# Altium footprint library moteus_n1.PCBLIB: 34 footprints (part 1 of 3)
Each footprint in its own frame and in the unit in brackets; x right, y up, seen from the top. Pads: shape width x height; smd on the part's side, far side on the other; paste and mask are expansions set on the pad; w line width, h text height; cw(c..) or ccw(c..) is an arc to the next point about the centre after c.
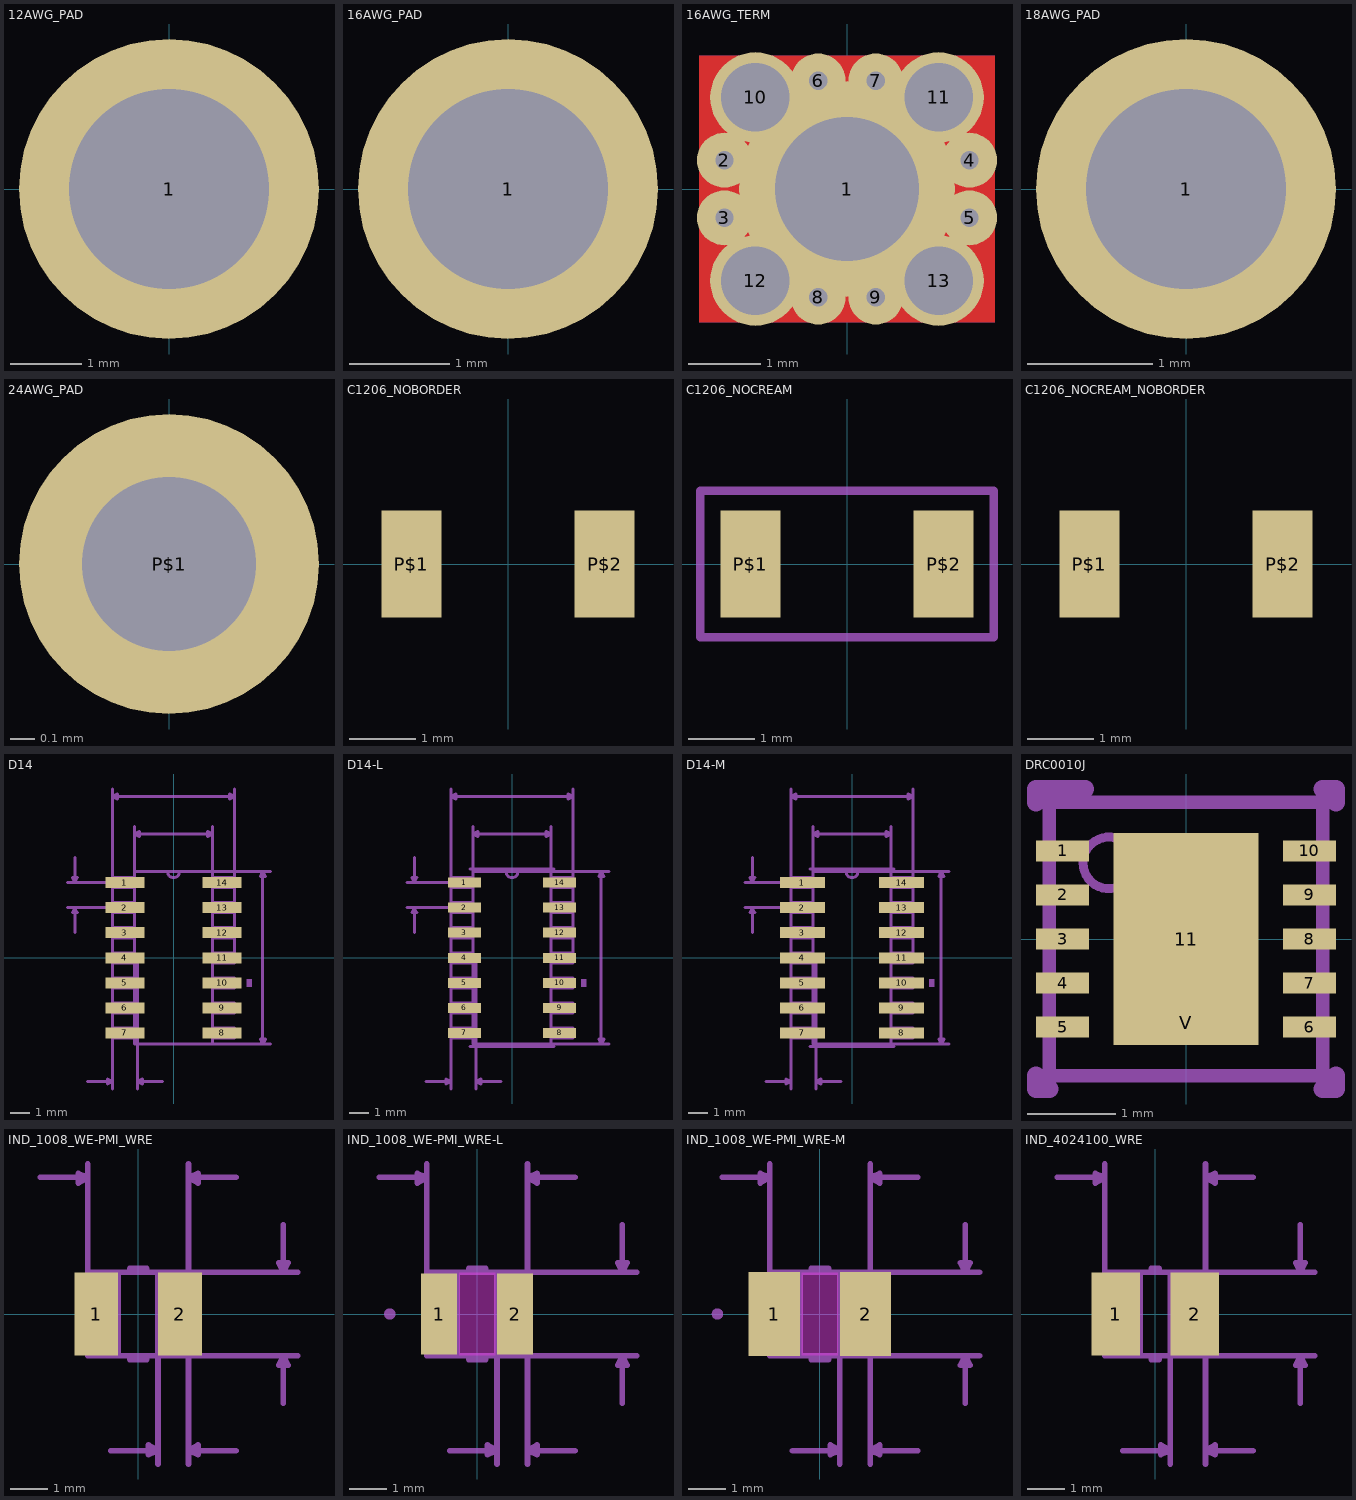
[diagram p0: the footprints below, top view; thin cyan lines are the x and y axes]

## 12AWG_PAD [mil]
pads (1):
  round 165.36 hole 110.24: 1(0,0)

## 16AWG_PAD [mm]
pads (1):
  round 3 hole 2: 1(0,0)

## 16AWG_TERM [mil]
pads (13):
  round 118.11 hole 78.74: 1(0,0)
  round 30 hole 10: 2(-66.93,15.75) 3(-66.93,-15.75) 4(66.93,15.75) 5(66.93,-15.75) 6(-15.75,59.06) 7(15.75,59.06) 8(-15.75,-59.06) 9(15.75,-59.06)
  round 49.4 hole 37.4: 10(-50,50) 11(50,50) 12(-50,-50) 13(50,-50)
Top:
  region: -80.71,72.83 80.71,72.83 80.71,-72.83 -80.71,-72.83
Route2:
  region: -80.71,72.83 80.71,72.83 80.71,-72.83 -80.71,-72.83
Route15:
  region: -80.71,72.83 80.71,72.83 80.71,-72.83 -80.71,-72.83
Bottom:
  region: -80.71,72.83 80.71,72.83 80.71,-72.83 -80.71,-72.83
Top Solder:
  region: -80.71,72.83 80.71,72.83 80.71,-72.83 -80.71,-72.83
Bottom Solder:
  region: -80.71,72.83 80.71,72.83 80.71,-72.83 -80.71,-72.83

## 18AWG_PAD [mil]
pads (1):
  round 94.48 hole 62.99: 1(0,0)

## 24AWG_PAD [mil]
pads (1):
  round 47.56 hole 27.56: P$1(0,0)

## C1206_NOBORDER [mil]
pads (2):
  rect 35.43x62.99 smd: P$1(-57.09,0) P$2(57.09,0)

## C1206_NOCREAM [mil]
pads (2):
  rect 35.43x62.99 smd paste+0: P$1(-57.09,0) P$2(57.09,0)
tPlace:
  lines w5: -86.61,-43.31 -86.61,43.31 86.61,43.31 86.61,-43.31 -86.61,-43.31

## C1206_NOCREAM_NOBORDER [mil]
pads (2):
  rect 35.43x62.99 smd paste+0: P$1(-57.09,0) P$2(57.09,0)

## D14 [mil]
pads (14):
  rect 78x22 smd: 1(-97,150) 2(-97,100) 3(-97,50) 4(-97,0) 5(-97,-50) 6(-97,-100) 7(-97,-150) 8(97,-150) 9(97,-100) 10(97,-50) 11(97,0) 12(97,50) 13(97,100) 14(97,150)
tDocu:
  lines w6: -12,172 12,172 ; -12,172 -78,172 -78,-172 78,-172 78,172 12,172 ; -12,172 ccw(c0,172) 12,172 ; -122,-160 -122,-140 -78,-140 -78,-160 -122,-160 ; -122,-110 -122,-90 -78,-90 -78,-110 -122,-110 ; -122,-60 -122,-40 -78,-40 -78,-60 -122,-60 ; -122,-10 -122,10 -78,10 -78,-10 -122,-10 ; -122,40 -122,60 -78,60 -78,40 -122,40 ; -122,90 -122,110 -78,110 -78,90 -122,90 ; -122,140 -122,160 -78,160 -78,140 -122,140 ; 78,-160 78,-140 122,-140 122,-160 78,-160 ; 78,-110 78,-90 122,-90 122,-110 78,-110 ; 78,-60 78,-40 122,-40 122,-60 78,-60 ; 78,-10 78,10 122,10 122,-10 78,-10 ; 78,40 78,60 122,60 122,40 78,40 ; 78,90 78,110 122,110 122,90 78,90 ; 78,140 78,160 122,160 122,140 78,140
tPlace:
  region: 156,-42.5 156,-57.5 146,-57.5 146,-42.5
  lines w6: -51,-172 51,-172 ; -51,172 -12,172 ; 51,172 12,172 ; -12,172 12,172 ; -12,172 ccw(c0,172) 12,172
Measures:
  lines w6: -212,100 -197,100 ; -212,150 -197,150 ; -197,50 -197,100 ; -197,200 -197,150 ; -172,-247 -122,-247 ; -122,-262 -122,-247 ; -122,337 -122,322 ; -97,100 -197,100 ; -97,150 -197,150 ; -78,0 -78,247 ; -78,262 -78,247 ; -72,-262 -72,-247 ; -72,0 -72,-247 ; -22,-247 -72,-247 ; 0,-172 178,-172 ; 0,172 178,172 ; 78,0 78,247 ; 78,262 78,247 ; 122,0 122,322 ; 122,337 122,322 ; 194,-172 178,-172 ; 194,172 178,172 ; -197,100 -202,90 -192,90 -197,100 ; -197,150 -202,160 -192,160 -197,150 ; -122,-247 -122,322 ; -122,-247 -132,-242 -132,-252 -122,-247 ; -122,322 122,322 ; -122,322 -112,327 -112,317 -122,322 ; -78,247 78,247 ; -78,247 -68,252 -68,242 -78,247 ; -72,-247 -62,-242 -62,-252 -72,-247 ; 78,247 68,252 68,242 78,247 ; 122,322 112,327 112,317 122,322 ; 178,-172 178,172 ; 178,-172 174,-162 184,-162 178,-172 ; 178,172 174,162 184,162 178,172
  text "Default Padstyle: RX78Y22D0T" at -599,-372 h77.5
  text "Pin One Padstyle: RX78Y22D0T" at -613,-447 h77.5
  text "Alt 1 Padstyle: OX60Y90D30P" at -583,-522 h77.5
  text "Alt 2 Padstyle: OX90Y60D30P" at -583,-597 h77.5
  text ".157in/3.988mm" at -148,267 h38.75
  text ".244in/6.198mm" at -148,342 h38.75
  text ".344in/8.738mm" at 198,-12 h38.75
  text ".05in/1.27mm" at -467,112 h38.75
  text ".05in/1.27mm" at -222,-292 h38.75

## D14-L [mil]
pads (14):
  rect 66x20 smd: 1(-95,150) 2(-95,100) 3(-95,50) 4(-95,0) 5(-95,-50) 6(-95,-100) 7(-95,-150) 8(95,-150) 9(95,-100) 10(95,-50) 11(95,0) 12(95,50) 13(95,100) 14(95,150)
tDocu:
  lines w6: -12,172 12,172 ; -12,172 -78,172 -78,-172 78,-172 78,172 12,172 ; -12,172 ccw(c0,172) 12,172 ; -122,-160 -122,-140 -78,-140 -78,-160 -122,-160 ; -122,-110 -122,-90 -78,-90 -78,-110 -122,-110 ; -122,-60 -122,-40 -78,-40 -78,-60 -122,-60 ; -122,-10 -122,10 -78,10 -78,-10 -122,-10 ; -122,40 -122,60 -78,60 -78,40 -122,40 ; -122,90 -122,110 -79,110 -78,90 -122,90 ; -122,140 -122,160 -79,160 -78,140 -122,140 ; 78,-140 79,-160 122,-160 122,-140 78,-140 ; 78,-110 78,-90 122,-90 122,-110 78,-110 ; 78,-60 78,-40 122,-40 122,-60 78,-60 ; 78,-10 78,10 122,10 122,-10 78,-10 ; 78,40 78,60 122,60 122,40 78,40 ; 78,90 78,110 122,110 122,90 78,90 ; 78,140 78,160 122,160 122,140 78,140
  text "*" at -86,119 h77.5
tPlace:
  region: 148,-42.5 148,-57.5 138,-57.5 138,-42.5
  lines w6: -84,-177 84,-177 ; -84,177 84,177
  text "*" at -128,165 h77.5
Measures:
  lines w6: -210,100 -195,100 ; -210,150 -195,150 ; -195,50 -195,100 ; -195,200 -195,150 ; -172,-247 -122,-247 ; -122,-262 -122,-247 ; -122,337 -122,322 ; -95,100 -195,100 ; -95,150 -195,150 ; -78,0 -78,247 ; -78,262 -78,247 ; -72,-262 -72,-247 ; -72,0 -72,-247 ; -22,-247 -72,-247 ; 0,-172 178,-172 ; 0,172 178,172 ; 78,0 78,247 ; 78,262 78,247 ; 122,0 122,322 ; 122,337 122,322 ; 194,-172 178,-172 ; 194,172 178,172 ; -195,100 -200,90 -190,90 -195,100 ; -195,150 -200,160 -190,160 -195,150 ; -122,-247 -122,322 ; -122,-247 -132,-242 -132,-252 -122,-247 ; -122,322 122,322 ; -122,322 -112,327 -112,317 -122,322 ; -78,247 78,247 ; -78,247 -68,252 -68,242 -78,247 ; -72,-247 -62,-242 -62,-252 -72,-247 ; 78,247 68,252 68,242 78,247 ; 122,322 112,327 112,317 122,322 ; 178,-172 178,172 ; 178,-172 174,-162 184,-162 178,-172 ; 178,172 174,162 184,162 178,172
  text "Default Padstyle: RX66Y20D0T" at -599,-372 h77.5
  text "Pin One Padstyle: RX66Y20D0T" at -613,-432 h77.5
  text "Alt 1 Padstyle: OX60Y90D30P" at -583,-612 h77.5
  text "Alt 2 Padstyle: OX90Y60D30P" at -583,-672 h77.5
  text "0.157in/3.988mm" at -159,267 h38.75
  text "0.244in/6.198mm" at -159,342 h38.75
  text "0.344in/8.738mm" at 198,-12 h38.75
  text "0.05in/1.27mm" at -488,112 h38.75
  text "0.05in/1.27mm" at -233,-292 h38.75

## D14-M [mil]
pads (14):
  rect 90x22 smd: 1(-99,150) 2(-99,100) 3(-99,50) 4(-99,0) 5(-99,-50) 6(-99,-100) 7(-99,-150) 8(99,-150) 9(99,-100) 10(99,-50) 11(99,0) 12(99,50) 13(99,100) 14(99,150)
tDocu:
  lines w6: -12,172 12,172 ; -12,172 -78,172 -78,-172 78,-172 78,172 12,172 ; -12,172 ccw(c0,172) 12,172 ; -122,-160 -122,-140 -78,-140 -78,-160 -122,-160 ; -122,-110 -122,-90 -78,-90 -78,-110 -122,-110 ; -122,-60 -122,-40 -78,-40 -78,-60 -122,-60 ; -122,-10 -122,10 -78,10 -78,-10 -122,-10 ; -122,40 -122,60 -78,60 -78,40 -122,40 ; -122,90 -122,110 -79,110 -78,90 -122,90 ; -122,140 -122,160 -79,160 -78,140 -122,140 ; 78,-140 79,-160 122,-160 122,-140 78,-140 ; 78,-110 78,-90 122,-90 122,-110 78,-110 ; 78,-60 78,-40 122,-40 122,-60 78,-60 ; 78,-10 78,10 122,10 122,-10 78,-10 ; 78,40 78,60 122,60 122,40 78,40 ; 78,90 78,110 122,110 122,90 78,90 ; 78,140 78,160 122,160 122,140 78,140
  text "*" at -86,119 h77.5
tPlace:
  region: 164,-42.5 164,-57.5 154,-57.5 154,-42.5
  lines w6: -84,-177 84,-177 ; -84,177 84,177
  text "*" at -132,167 h77.5
Measures:
  lines w6: -214,100 -199,100 ; -214,150 -199,150 ; -199,50 -199,100 ; -199,200 -199,150 ; -172,-247 -122,-247 ; -122,-262 -122,-247 ; -122,337 -122,322 ; -99,100 -199,100 ; -99,150 -199,150 ; -78,0 -78,247 ; -78,262 -78,247 ; -72,-262 -72,-247 ; -72,0 -72,-247 ; -22,-247 -72,-247 ; 0,-172 178,-172 ; 0,172 178,172 ; 78,0 78,247 ; 78,262 78,247 ; 122,0 122,322 ; 122,337 122,322 ; 194,-172 178,-172 ; 194,172 178,172 ; -199,100 -204,90 -194,90 -199,100 ; -199,150 -204,160 -194,160 -199,150 ; -122,-247 -122,322 ; -122,-247 -132,-242 -132,-252 -122,-247 ; -122,322 122,322 ; -122,322 -112,327 -112,317 -122,322 ; -78,247 78,247 ; -78,247 -68,252 -68,242 -78,247 ; -72,-247 -62,-242 -62,-252 -72,-247 ; 78,247 68,252 68,242 78,247 ; 122,322 112,327 112,317 122,322 ; 178,-172 178,172 ; 178,-172 174,-162 184,-162 178,-172 ; 178,172 174,162 184,162 178,172
  text "Default Padstyle: RX90Y22D0T" at -599,-372 h77.5
  text "Pin One Padstyle: RX90Y22D0T" at -613,-432 h77.5
  text "Alt 1 Padstyle: OX60Y90D30P" at -583,-612 h77.5
  text "Alt 2 Padstyle: OX90Y60D30P" at -583,-672 h77.5
  text "0.157in/3.988mm" at -159,267 h38.75
  text "0.244in/6.198mm" at -159,342 h38.75
  text "0.344in/8.738mm" at 198,-12 h38.75
  text "0.05in/1.27mm" at -492,112 h38.75
  text "0.05in/1.27mm" at -233,-292 h38.75

## DRC0010J [mm]
pads (12):
  rect 0.6x0.24 smd: 1(-1.4,1) 2(-1.4,0.5) 3(-1.4,0) 4(-1.4,-0.5) 5(-1.4,-1) 6(1.4,-1) 7(1.4,-0.5) 8(1.4,0) 9(1.4,0.5) 10(1.4,1)
  rect 1.65x2.4 smd paste+0: 11(0,0)
  rrect100% 0.5x0.5 smd: V(0,-0.95)
Top Paste:
  region: -0.75,-1.16 0.75,-1.16 0.75,-0.1 -0.75,-0.1
  region: -0.75,0.1 0.75,0.1 0.75,1.16 -0.75,1.16
tDocu:
  lines w0.102: -1.168,0.864 ccw(c-0.876,0.864) -0.584,0.864 ccw(c-0.876,0.864) -1.168,0.864
  lines w0.152: -1.549,-1.549 -1.549,1.549 1.549,1.549 1.549,-1.549 -1.549,-1.549
  text ".Designator" at -1.397,-1.651 h1.97
tPlace:
  lines w0.203: -1.702,-1.549 -1.702,-1.702 -1.549,-1.702 ; -1.702,1.549 -1.702,1.702 -1.143,1.702 ; 1.549,-1.702 1.702,-1.702 1.702,-1.549 ; 1.549,1.702 1.702,1.702 1.702,1.549
  text "Designator302" at -1.549,2.438 h1.97

## IND_1008_WE-PMI_WRE [mil]
pads (2):
  rect 46x87 smd: 1(-44,0) 2(44,0)
tDocu:
  lines w6: -21,-44 -21,44 ; -21,-44 -53,-44 -53,44 -21,44 ; -21,-44 21,-44 ; -21,44 21,44 ; 21,-44 21,44 ; 21,-44 53,-44 53,44 21,44
tPlace:
  lines w6: -9,-48 9,-48 ; -9,48 9,48
Measures:
  lines w6: -103,144 -53,144 ; -53,0 -53,144 ; -53,158 -53,144 ; -29,-144 21,-144 ; 0,-44 153,-44 ; 0,44 153,44 ; 21,-158 21,-144 ; 21,0 21,-144 ; 53,-158 53,-144 ; 53,158 53,144 ; 103,-144 53,-144 ; 103,144 53,144 ; 153,-94 153,-44 ; 153,94 153,44 ; 168,-44 153,-44 ; 168,44 153,44 ; -53,144 -63,148 -63,138 -53,144 ; 21,-144 11,-138 11,-148 21,-144 ; 53,-144 53,144 ; 53,-144 63,-138 63,-148 53,-144 ; 53,144 63,148 63,138 53,144 ; 153,-44 148,-54 158,-54 153,-44 ; 153,44 148,54 158,54 153,44
  text "Default Padstyle: RX46Y87D0T" at -599,-314 h77.5
  text "Alt 1 Padstyle: OX60Y90D30P" at -583,-374 h77.5
  text "Alt 2 Padstyle: OX90Y60D30P" at -583,-434 h77.5
  text "0.087in/2.21mm" at 173,-12 h38.75
  text "0.106in/2.692mm" at -159,164 h38.75
  text "0.032in/0.813mm" at -122,-188 h38.75

## IND_1008_WE-PMI_WRE-L [mil]
pads (2):
  rect 38x85 smd: 1(-40,0) 2(40,0)
Top keep-out:
  region: -19,43.5 19,43.5 19,-43.5 -19,-43.5
  region: -19,41.5 19,41.5 19,-41.5 -19,-41.5
tDocu:
  lines w0: -38,0 ccw(c-35,0) -32,0 ccw(c-35,0) -38,0
  lines w6: -21,-44 -21,44 ; -21,-44 -53,-44 -53,44 -21,44 ; -21,-44 53,-44 53,-43 ; -21,44 21,44 ; 21,44 21,-43 53,-43 ; 21,44 53,44 53,-43
tPlace:
  lines w6: -9,-48 9,-48 ; -9,48 9,48 ; -95,0 ccw(c-92,0) -89,0 ccw(c-92,0) -95,0
Measures:
  lines w6: -103,144 -53,144 ; -53,0 -53,144 ; -53,158 -53,144 ; -29,-144 21,-144 ; 0,-44 153,-44 ; 0,44 153,44 ; 21,-158 21,-144 ; 21,0 21,-144 ; 53,-158 53,-144 ; 53,158 53,144 ; 103,-144 53,-144 ; 103,144 53,144 ; 153,-94 153,-44 ; 153,94 153,44 ; 168,-44 153,-44 ; 168,44 153,44 ; -53,144 -63,148 -63,138 -53,144 ; 21,-144 11,-138 11,-148 21,-144 ; 53,-144 53,144 ; 53,-144 63,-138 63,-148 53,-144 ; 53,144 63,148 63,138 53,144 ; 153,-44 148,-54 158,-54 153,-44 ; 153,44 148,54 158,54 153,44
  text "Default Padstyle: RX38Y85D0T" at -599,-312 h77.5
  text "Alt 1 Padstyle: OX60Y90D30P" at -583,-372 h77.5
  text "Alt 2 Padstyle: OX90Y60D30P" at -583,-432 h77.5
  text "0.087in/2.21mm" at 173,-12 h38.75
  text "0.106in/2.692mm" at -159,164 h38.75
  text "0.032in/0.813mm" at -122,-188 h38.75

## IND_1008_WE-PMI_WRE-M [mil]
pads (2):
  rect 54x89 smd: 1(-48,0) 2(48,0)
Top keep-out:
  region: -19,43.5 19,43.5 19,-43.5 -19,-43.5
  region: -19,41.5 19,41.5 19,-41.5 -19,-41.5
tDocu:
  lines w0: -46,0 ccw(c-43,0) -40,0 ccw(c-43,0) -46,0
  lines w6: -21,-44 -21,44 ; -21,-44 -53,-44 -53,44 -21,44 ; -21,-44 53,-44 53,-43 ; -21,44 21,44 ; 21,44 21,-43 53,-43 ; 21,44 53,44 53,-43
tPlace:
  lines w6: -9,-48 9,-48 ; -9,48 9,48 ; -111,0 ccw(c-108,0) -105,0 ccw(c-108,0) -111,0
Measures:
  lines w6: -103,144 -53,144 ; -53,0 -53,144 ; -53,158 -53,144 ; -29,-144 21,-144 ; 0,-44 153,-44 ; 0,44 153,44 ; 21,-158 21,-144 ; 21,0 21,-144 ; 53,-158 53,-144 ; 53,158 53,144 ; 103,-144 53,-144 ; 103,144 53,144 ; 153,-94 153,-44 ; 153,94 153,44 ; 168,-44 153,-44 ; 168,44 153,44 ; -53,144 -63,148 -63,138 -53,144 ; 21,-144 11,-138 11,-148 21,-144 ; 53,-144 53,144 ; 53,-144 63,-138 63,-148 53,-144 ; 53,144 63,148 63,138 53,144 ; 153,-44 148,-54 158,-54 153,-44 ; 153,44 148,54 158,54 153,44
  text "Default Padstyle: RX54Y89D0T" at -599,-314 h77.5
  text "Alt 1 Padstyle: OX60Y90D30P" at -583,-374 h77.5
  text "Alt 2 Padstyle: OX90Y60D30P" at -583,-434 h77.5
  text "0.087in/2.21mm" at 173,-12 h38.75
  text "0.106in/2.692mm" at -159,164 h38.75
  text "0.032in/0.813mm" at -122,-188 h38.75

## IND_4024100_WRE [mil]
pads (2):
  rect 51x87 smd: 1(-41.5,0) 2(41.5,0)
tDocu:
  lines w6: -16,-44 -16,44 ; -16,-44 -53,-44 -53,44 -16,44 ; -16,-44 16,-44 ; -16,44 16,44 ; 16,-44 16,44 ; 16,-44 53,-44 53,44 16,44
tPlace:
  lines w6: -4,-48 4,-48 ; -4,48 4,48
Measures:
  lines w6: -103,144 -53,144 ; -53,0 -53,144 ; -53,158 -53,144 ; -34,-144 16,-144 ; 0,-44 153,-44 ; 0,44 153,44 ; 16,-158 16,-144 ; 16,0 16,-144 ; 53,-158 53,-144 ; 53,158 53,144 ; 103,-144 53,-144 ; 103,144 53,144 ; 153,-94 153,-44 ; 153,94 153,44 ; 168,-44 153,-44 ; 168,44 153,44 ; -53,144 -63,148 -63,138 -53,144 ; 16,-144 6,-138 6,-148 16,-144 ; 53,-144 53,144 ; 53,-144 63,-138 63,-148 53,-144 ; 53,144 63,148 63,138 53,144 ; 153,-44 148,-54 158,-54 153,-44 ; 153,44 148,54 158,54 153,44
  text "Default Padstyle: RX51Y87D0T" at -599,-314 h77.5
  text "Alternate 1 Padstyle: OX60Y90D30P" at -712,-414 h77.5
  text "Alternate 2 Padstyle: OX90Y60D30P" at -712,-514 h77.5
  text "0.087in/2.21mm" at 173,-12 h38.75
  text "0.106in/2.692mm" at -159,164 h38.75
  text "0.037in/0.94mm" at -113,-188 h38.75